# EAGLE library part STEPPER-MOTOR-DRV8811 (library FlashPCB_ICs)
DRV8811 - Bipolar Motor Driver Power MOSFET Logic 28-HTSSOP Technical Specifications: Pulse Width Modulation (PWM) Microstepping Motor Driver Step and Direction control, 1/8 Microstepping indedexer Supply Voltage: 8V~38V Protection Feratures: VM Undervoltage Lockout, Overcurrent Protection, Thermal Shutdown Thermal relief central pad Pin-to-Pin compatible with DRV8818 Component Search: DRV8811 <https://www.flashpcb.com/components> Datasheet: DRV8811 Stepper Motor Controller IC datasheet (Rev. J) <https://www.ti.com/lit/ds/symlink/drv8811.pdf?HQS=dis-dk-null-digikeymode-dsf-pf-null-wwe&ts=1682020714668&ref_url=https%253A%252F%252Fwww.ti.com%252Fgeneral%252Fdocs%252Fsuppproductinfo.tsp%253FdistId%253D10%2526gotoUrl%253Dhttps%253A%252F%252Fwww.ti.com%252Flit%252Fgpn%252Fdrv8811>
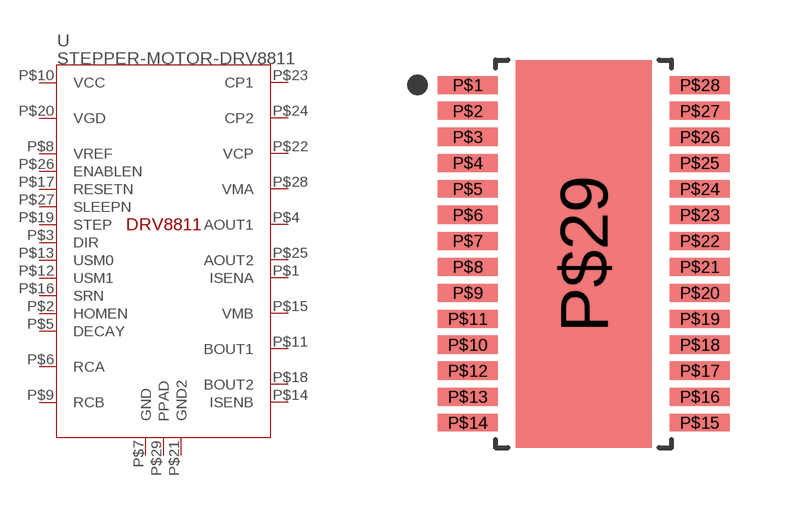
[diagram p83: symbol with the pads of 28-HTSSOP; footprint 28-HTSSOP]

Designator prefix U

## STEPPER-MOTOR-DRV8811  [28-HTSSOP]
P$1  ISENA
P$2  HOMEN
P$3  DIR
P$4  AOUT1
P$5  DECAY
P$6  RCA
P$7  GND
P$8  VREF
P$9  RCB
P$10  VCC
P$11  BOUT1
P$12  USM1
P$13  USM0
P$14  ISENB
P$15  VMB
P$16  SRN
P$17  RESETN
P$18  BOUT2
P$19  STEP
P$20  VGD
P$21  GND2
P$22  VCP
P$23  CP1
P$24  CP2
P$25  AOUT2
P$26  ENABLEN
P$27  SLEEPN
P$28  VMA
P$29  PPAD

## Footprint 28-HTSSOP (pad centres in mm)
smd 1.5 x 0.45: P$1 -2.9,4.225; P$2 -2.9,3.575; P$3 -2.9,2.925; P$4 -2.9,2.275; P$5 -2.9,1.625; P$6 -2.9,0.975; P$7 -2.9,0.325; P$8 -2.9,-0.325; P$9 -2.9,-0.975; P$10 -2.9,-2.275; P$11 -2.9,-1.625; P$12 -2.9,-2.925; P$13 -2.9,-3.575; P$14 -2.9,-4.225; P$15 2.9,-4.225; P$16 2.9,-3.575; P$17 2.9,-2.925; P$18 2.9,-2.275; P$19 2.9,-1.625; P$20 2.9,-0.975; P$21 2.9,-0.325; P$22 2.9,0.325; P$23 2.9,0.975; P$24 2.9,1.625; P$25 2.9,2.275; P$26 2.9,2.925; P$27 2.9,3.575; P$28 2.9,4.225
smd 3.4 x 9.7: P$29 0,0